# Altium schematic symbol library Converter_DCDC.SchLib: 947 symbols (part 10 of 12)
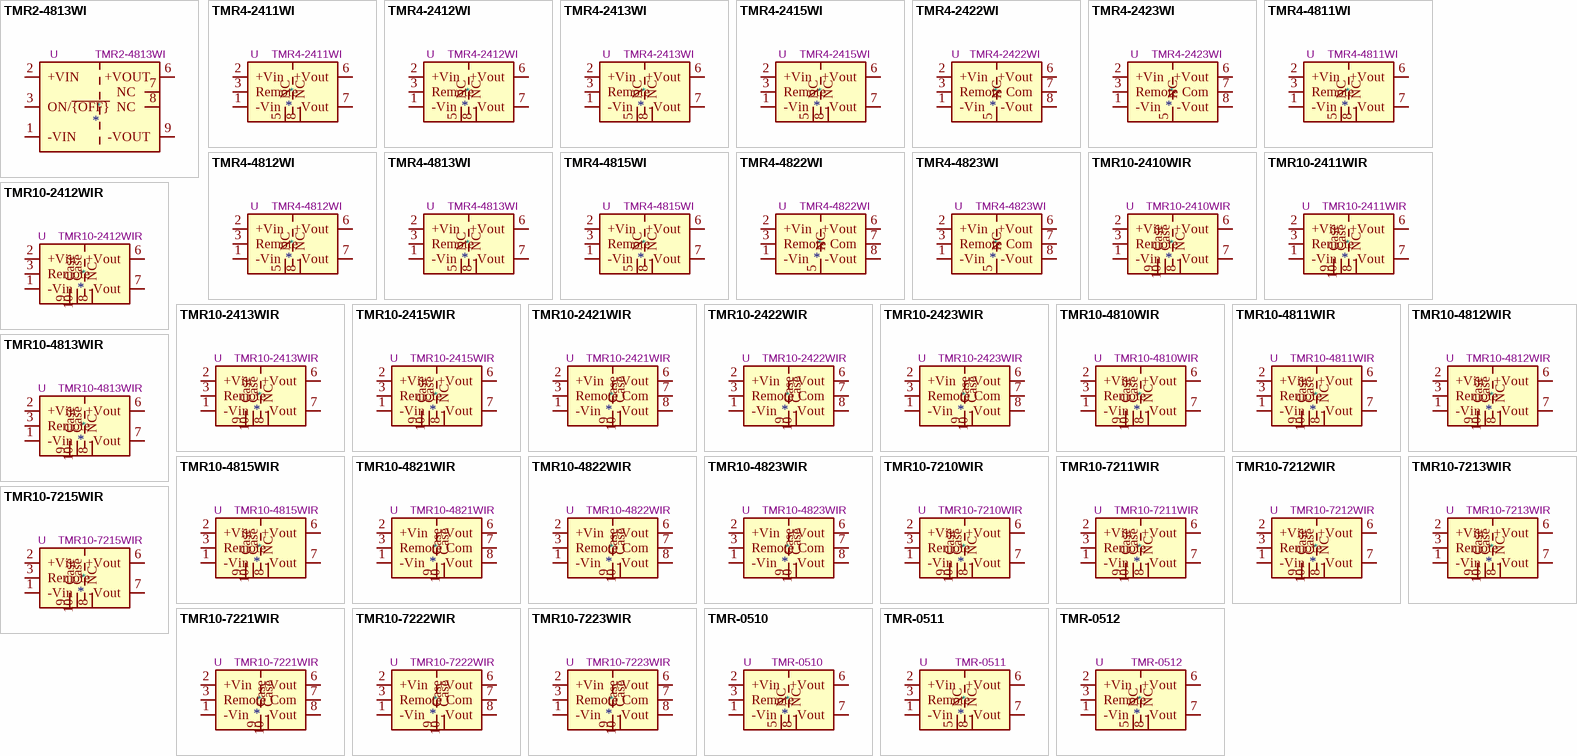
[diagram p32: symbols TMR2-4813WI to TMR-0512]

## TMR4-4815WI
designator *  value TMR4-4815WI  Reference: U
4W DC/DC industrial converter regulated, 18-75V input, 24V fixed output voltage, 166mA output, 1.6kVDC isolation, SIP-8; ki_keywords: Traco isolated dc-dc 62368-1 single; ki_fp_filters: Converter*DCDC*TRACO*TMR4*xxxxWI*; Footprint: Converter_DCDC:Converter_DCDC_TRACO_TMR4-xxxxWI_THT; Datasheet: https://www.tracopower.com/products/tmr4wi.pdf; Description_: 4W DC/DC industrial converter regulated, 18-75V input, 24V fixed output voltage, 166mA output, 1.6kVDC isolation, SIP-8
pins: 1 -Vin, 2 +Vin, 3 Remote, 5 NC, 6 +Vout, 7 -Vout, 8 NC

## TMR4-4822WI
designator *  value TMR4-4822WI  Reference: U
4W DC/DC industrial converter regulated, 18-75V input, ±12V fixed output voltage, 166mA each output, 1.6kVDC isolation, SIP-8; ki_keywords: Traco isolated dc-dc 62368-1 dual; ki_fp_filters: Converter*DCDC*TRACO*TMR4*xxxxWI*; Footprint: Converter_DCDC:Converter_DCDC_TRACO_TMR4-xxxxWI_THT; Datasheet: https://www.tracopower.com/products/tmr4wi.pdf; Description_: 4W DC/DC industrial converter regulated, 18-75V input, ±12V fixed output voltage, 166mA each output, 1.6kVDC isolation, SIP-8
pins: 1 -Vin, 2 +Vin, 3 Remote, 5 NC, 6 +Vout, 7 Com, 8 -Vout

## TMR4-4823WI
designator *  value TMR4-4823WI  Reference: U
4W DC/DC converter regulated, 18-75V input, ±15V fixed output voltage, 133mA each output, 1.6kVDC isolation, SIP-8; ki_keywords: Traco isolated dc-dc 62368-1 dual; ki_fp_filters: Converter*DCDC*TRACO*TMR4*xxxxWI*; Footprint: Converter_DCDC:Converter_DCDC_TRACO_TMR4-xxxxWI_THT; Datasheet: https://www.tracopower.com/products/tmr4wi.pdf; Description_: 4W DC/DC converter regulated, 18-75V input, ±15V fixed output voltage, 133mA each output, 1.6kVDC isolation, SIP-8
pins: 1 -Vin, 2 +Vin, 3 Remote, 5 NC, 6 +Vout, 7 Com, 8 -Vout

## TMR10-2410WIR
designator *  value TMR10-2410WIR  Reference: U
10W DC/DC railway converter regulated, 9-36V input, 3.3V fixed output voltage, 2.5A output, 3.0kVDC isolation, SIP-8; ki_keywords: Traco isolated dc-dc 50155 50121-3-2 62368-1 single; ki_fp_filters: Converter*DCDC*TRACO*TMR10*24xxWIR*48xxWIR*72xxWIR*THT*; Footprint: Converter_DCDC:Converter_DCDC_TRACO_TMR10-24xxWIR_48xxWIR_72xxWIR_THT; Datasheet: https://www.tracopower.com/products/tmr10wir.pdf; Description_: 10W DC/DC railway converter regulated, 9-36V input, 3.3V fixed output voltage, 2.5A output, 3.0kVDC isolation, SIP-8
pins: 1 -Vin, 2 +Vin, 3 Remote, 6 +Vout, 7 -Vout, 8 NC, 9 Case, 10 Case

## TMR10-2411WIR
designator *  value TMR10-2411WIR  Reference: U
10W DC/DC railway converter regulated, 9-36V input, 5V fixed output voltage, 2A output, 3.0kVDC isolation, SIP-8; ki_keywords: Traco isolated dc-dc 50155 50121-3-2 62368-1 single; ki_fp_filters: Converter*DCDC*TRACO*TMR10*24xxWIR*48xxWIR*72xxWIR*THT*; Footprint: Converter_DCDC:Converter_DCDC_TRACO_TMR10-24xxWIR_48xxWIR_72xxWIR_THT; Datasheet: https://www.tracopower.com/products/tmr10wir.pdf; Description_: 10W DC/DC railway converter regulated, 9-36V input, 5V fixed output voltage, 2A output, 3.0kVDC isolation, SIP-8
pins: 1 -Vin, 2 +Vin, 3 Remote, 6 +Vout, 7 -Vout, 8 NC, 9 Case, 10 Case

## TMR10-2412WIR
designator *  value TMR10-2412WIR  Reference: U
10W DC/DC railway converter regulated, 9-36V input, 12V fixed output voltage, 840mA output, 3.0kVDC isolation, SIP-8; ki_keywords: Traco isolated dc-dc 50155 50121-3-2 62368-1 single; ki_fp_filters: Converter*DCDC*TRACO*TMR10*24xxWIR*48xxWIR*72xxWIR*THT*; Footprint: Converter_DCDC:Converter_DCDC_TRACO_TMR10-24xxWIR_48xxWIR_72xxWIR_THT; Datasheet: https://www.tracopower.com/products/tmr10wir.pdf; Description_: 10W DC/DC railway converter regulated, 9-36V input, 12V fixed output voltage, 840mA output, 3.0kVDC isolation, SIP-8
pins: 1 -Vin, 2 +Vin, 3 Remote, 6 +Vout, 7 -Vout, 8 NC, 9 Case, 10 Case

## TMR10-2413WIR
designator *  value TMR10-2413WIR  Reference: U
10W DC/DC railway converter regulated, 9-36V input, 15V fixed output voltage, 670mA output, 3.0kVDC isolation, SIP-8; ki_keywords: Traco isolated dc-dc 50155 50121-3-2 62368-1 single; ki_fp_filters: Converter*DCDC*TRACO*TMR10*24xxWIR*48xxWIR*72xxWIR*THT*; Footprint: Converter_DCDC:Converter_DCDC_TRACO_TMR10-24xxWIR_48xxWIR_72xxWIR_THT; Datasheet: https://www.tracopower.com/products/tmr10wir.pdf; Description_: 10W DC/DC railway converter regulated, 9-36V input, 15V fixed output voltage, 670mA output, 3.0kVDC isolation, SIP-8
pins: 1 -Vin, 2 +Vin, 3 Remote, 6 +Vout, 7 -Vout, 8 NC, 9 Case, 10 Case

## TMR10-2415WIR
designator *  value TMR10-2415WIR  Reference: U
10W DC/DC railway converter regulated, 9-36V input, 24V fixed output voltage, 420mA output, 3.0kVDC isolation, SIP-8; ki_keywords: Traco isolated dc-dc 50155 50121-3-2 62368-1 single; ki_fp_filters: Converter*DCDC*TRACO*TMR10*24xxWIR*48xxWIR*72xxWIR*THT*; Footprint: Converter_DCDC:Converter_DCDC_TRACO_TMR10-24xxWIR_48xxWIR_72xxWIR_THT; Datasheet: https://www.tracopower.com/products/tmr10wir.pdf; Description_: 10W DC/DC railway converter regulated, 9-36V input, 24V fixed output voltage, 420mA output, 3.0kVDC isolation, SIP-8
pins: 1 -Vin, 2 +Vin, 3 Remote, 6 +Vout, 7 -Vout, 8 NC, 9 Case, 10 Case

## TMR10-2421WIR
designator *  value TMR10-2421WIR  Reference: U
10W DC/DC railway converter regulated, 9-36V input, ±5V fixed output voltage, 1A each output, 3.0kVDC isolation, SIP-8; ki_keywords: Traco isolated dc-dc 50155 50121-3-2 62368-1 dual; ki_fp_filters: Converter*DCDC*TRACO*TMR10*24xxWIR*48xxWIR*72xxWIR*THT*; Footprint: Converter_DCDC:Converter_DCDC_TRACO_TMR10-24xxWIR_48xxWIR_72xxWIR_THT; Datasheet: https://www.tracopower.com/products/tmr10wir.pdf; Description_: 10W DC/DC railway converter regulated, 9-36V input, ±5V fixed output voltage, 1A each output, 3.0kVDC isolation, SIP-8
pins: 1 -Vin, 2 +Vin, 3 Remote, 6 +Vout, 7 Com, 8 -Vout, 9 Case, 10 Case

## TMR10-2422WIR
designator *  value TMR10-2422WIR  Reference: U
10W DC/DC railway converter regulated, 9-36V input, ±12V fixed output voltage, 420mA each output, 3.0kVDC isolation, SIP-8; ki_keywords: Traco isolated dc-dc 50155 50121-3-2 62368-1 dual; ki_fp_filters: Converter*DCDC*TRACO*TMR10*24xxWIR*48xxWIR*72xxWIR*THT*; Footprint: Converter_DCDC:Converter_DCDC_TRACO_TMR10-24xxWIR_48xxWIR_72xxWIR_THT; Datasheet: https://www.tracopower.com/products/tmr10wir.pdf; Description_: 10W DC/DC railway converter regulated, 9-36V input, ±12V fixed output voltage, 420mA each output, 3.0kVDC isolation, SIP-8
pins: 1 -Vin, 2 +Vin, 3 Remote, 6 +Vout, 7 Com, 8 -Vout, 9 Case, 10 Case

## TMR10-2423WIR
designator *  value TMR10-2423WIR  Reference: U
10W DC/DC railway converter regulated, 9-36V input, ±15V fixed output voltage, 336mA each output, 3.0kVDC isolation, SIP-8; ki_keywords: Traco isolated dc-dc 50155 50121-3-2 62368-1 dual; ki_fp_filters: Converter*DCDC*TRACO*TMR10*24xxWIR*48xxWIR*72xxWIR*THT*; Footprint: Converter_DCDC:Converter_DCDC_TRACO_TMR10-24xxWIR_48xxWIR_72xxWIR_THT; Datasheet: https://www.tracopower.com/products/tmr10wir.pdf; Description_: 10W DC/DC railway converter regulated, 9-36V input, ±15V fixed output voltage, 336mA each output, 3.0kVDC isolation, SIP-8
pins: 1 -Vin, 2 +Vin, 3 Remote, 6 +Vout, 7 Com, 8 -Vout, 9 Case, 10 Case

## TMR10-4810WIR
designator *  value TMR10-4810WIR  Reference: U
10W DC/DC railway converter regulated, 18-75V input, 3.3V fixed output voltage, 2.5A output, 3.0kVDC isolation, SIP-8; ki_keywords: Traco isolated dc-dc 50155 50121-3-2 62368-1 single; ki_fp_filters: Converter*DCDC*TRACO*TMR10*24xxWIR*48xxWIR*72xxWIR*THT*; Footprint: Converter_DCDC:Converter_DCDC_TRACO_TMR10-24xxWIR_48xxWIR_72xxWIR_THT; Datasheet: https://www.tracopower.com/products/tmr10wir.pdf; Description_: 10W DC/DC railway converter regulated, 18-75V input, 3.3V fixed output voltage, 2.5A output, 3.0kVDC isolation, SIP-8
pins: 1 -Vin, 2 +Vin, 3 Remote, 6 +Vout, 7 -Vout, 8 NC, 9 Case, 10 Case

## TMR10-4811WIR
designator *  value TMR10-4811WIR  Reference: U
10W DC/DC railway converter regulated, 18-75V input, 5V fixed output voltage, 2A output, 3.0kVDC isolation, SIP-8; ki_keywords: Traco isolated dc-dc 50155 50121-3-2 62368-1 single; ki_fp_filters: Converter*DCDC*TRACO*TMR10*24xxWIR*48xxWIR*72xxWIR*THT*; Footprint: Converter_DCDC:Converter_DCDC_TRACO_TMR10-24xxWIR_48xxWIR_72xxWIR_THT; Datasheet: https://www.tracopower.com/products/tmr10wir.pdf; Description_: 10W DC/DC railway converter regulated, 18-75V input, 5V fixed output voltage, 2A output, 3.0kVDC isolation, SIP-8
pins: 1 -Vin, 2 +Vin, 3 Remote, 6 +Vout, 7 -Vout, 8 NC, 9 Case, 10 Case

## TMR10-4812WIR
designator *  value TMR10-4812WIR  Reference: U
10W DC/DC railway converter regulated, 18-75V input, 12V fixed output voltage, 840mA output, 3.0kVDC isolation, SIP-8; ki_keywords: Traco isolated dc-dc 50155 50121-3-2 62368-1 single; ki_fp_filters: Converter*DCDC*TRACO*TMR10*24xxWIR*48xxWIR*72xxWIR*THT*; Footprint: Converter_DCDC:Converter_DCDC_TRACO_TMR10-24xxWIR_48xxWIR_72xxWIR_THT; Datasheet: https://www.tracopower.com/products/tmr10wir.pdf; Description_: 10W DC/DC railway converter regulated, 18-75V input, 12V fixed output voltage, 840mA output, 3.0kVDC isolation, SIP-8
pins: 1 -Vin, 2 +Vin, 3 Remote, 6 +Vout, 7 -Vout, 8 NC, 9 Case, 10 Case

## TMR10-4813WIR
designator *  value TMR10-4813WIR  Reference: U
10W DC/DC railway converter regulated, 18-75V input, 15V fixed output voltage, 670mA output, 3.0kVDC isolation, SIP-8; ki_keywords: Traco isolated dc-dc 50155 50121-3-2 62368-1 single; ki_fp_filters: Converter*DCDC*TRACO*TMR10*24xxWIR*48xxWIR*72xxWIR*THT*; Footprint: Converter_DCDC:Converter_DCDC_TRACO_TMR10-24xxWIR_48xxWIR_72xxWIR_THT; Datasheet: https://www.tracopower.com/products/tmr10wir.pdf; Description_: 10W DC/DC railway converter regulated, 18-75V input, 15V fixed output voltage, 670mA output, 3.0kVDC isolation, SIP-8
pins: 1 -Vin, 2 +Vin, 3 Remote, 6 +Vout, 7 -Vout, 8 NC, 9 Case, 10 Case

## TMR10-4815WIR
designator *  value TMR10-4815WIR  Reference: U
10W DC/DC railway converter regulated, 18-75V input, 24V fixed output voltage, 420mA output, 3.0kVDC isolation, SIP-8; ki_keywords: Traco isolated dc-dc 50155 50121-3-2 62368-1 single; ki_fp_filters: Converter*DCDC*TRACO*TMR10*24xxWIR*48xxWIR*72xxWIR*THT*; Footprint: Converter_DCDC:Converter_DCDC_TRACO_TMR10-24xxWIR_48xxWIR_72xxWIR_THT; Datasheet: https://www.tracopower.com/products/tmr10wir.pdf; Description_: 10W DC/DC railway converter regulated, 18-75V input, 24V fixed output voltage, 420mA output, 3.0kVDC isolation, SIP-8
pins: 1 -Vin, 2 +Vin, 3 Remote, 6 +Vout, 7 -Vout, 8 NC, 9 Case, 10 Case

## TMR10-4821WIR
designator *  value TMR10-4821WIR  Reference: U
10W DC/DC railway converter regulated, 18-75V input, ±5V fixed output voltage, 1A each output, 3.0kVDC isolation, SIP-8; ki_keywords: Traco isolated dc-dc 50155 50121-3-2 62368-1 dual; ki_fp_filters: Converter*DCDC*TRACO*TMR10*24xxWIR*48xxWIR*72xxWIR*THT*; Footprint: Converter_DCDC:Converter_DCDC_TRACO_TMR10-24xxWIR_48xxWIR_72xxWIR_THT; Datasheet: https://www.tracopower.com/products/tmr10wir.pdf; Description_: 10W DC/DC railway converter regulated, 18-75V input, ±5V fixed output voltage, 1A each output, 3.0kVDC isolation, SIP-8
pins: 1 -Vin, 2 +Vin, 3 Remote, 6 +Vout, 7 Com, 8 -Vout, 9 Case, 10 Case

## TMR10-4822WIR
designator *  value TMR10-4822WIR  Reference: U
10W DC/DC railway converter regulated, 18-75V input, ±12V fixed output voltage, 420mA each output, 3.0kVDC isolation, SIP-8; ki_keywords: Traco isolated dc-dc 50155 50121-3-2 62368-1 dual; ki_fp_filters: Converter*DCDC*TRACO*TMR10*24xxWIR*48xxWIR*72xxWIR*THT*; Footprint: Converter_DCDC:Converter_DCDC_TRACO_TMR10-24xxWIR_48xxWIR_72xxWIR_THT; Datasheet: https://www.tracopower.com/products/tmr10wir.pdf; Description_: 10W DC/DC railway converter regulated, 18-75V input, ±12V fixed output voltage, 420mA each output, 3.0kVDC isolation, SIP-8
pins: 1 -Vin, 2 +Vin, 3 Remote, 6 +Vout, 7 Com, 8 -Vout, 9 Case, 10 Case

## TMR10-4823WIR
designator *  value TMR10-4823WIR  Reference: U
10W DC/DC railway converter regulated, 18-75V input, ±15V fixed output voltage, 336mA each output, 3.0kVDC isolation, SIP-8; ki_keywords: Traco isolated dc-dc 50155 50121-3-2 62368-1 dual; ki_fp_filters: Converter*DCDC*TRACO*TMR10*24xxWIR*48xxWIR*72xxWIR*THT*; Footprint: Converter_DCDC:Converter_DCDC_TRACO_TMR10-24xxWIR_48xxWIR_72xxWIR_THT; Datasheet: https://www.tracopower.com/products/tmr10wir.pdf; Description_: 10W DC/DC railway converter regulated, 18-75V input, ±15V fixed output voltage, 336mA each output, 3.0kVDC isolation, SIP-8
pins: 1 -Vin, 2 +Vin, 3 Remote, 6 +Vout, 7 Com, 8 -Vout, 9 Case, 10 Case

## TMR10-7210WIR
designator *  value TMR10-7210WIR  Reference: U
10W DC/DC railway converter regulated, 40-160V input, 3.3V fixed output voltage, 2.5A output, 3.0kVDC isolation, SIP-8; ki_keywords: Traco isolated dc-dc 50155 50121-3-2 62368-1 single; ki_fp_filters: Converter*DCDC*TRACO*TMR10*24xxWIR*48xxWIR*72xxWIR*THT*; Footprint: Converter_DCDC:Converter_DCDC_TRACO_TMR10-24xxWIR_48xxWIR_72xxWIR_THT; Datasheet: https://www.tracopower.com/products/tmr10wir.pdf; Description_: 10W DC/DC railway converter regulated, 40-160V input, 3.3V fixed output voltage, 2.5A output, 3.0kVDC isolation, SIP-8
pins: 1 -Vin, 2 +Vin, 3 Remote, 6 +Vout, 7 -Vout, 8 NC, 9 Case, 10 Case

## TMR10-7211WIR
designator *  value TMR10-7211WIR  Reference: U
10W DC/DC railway converter regulated, 40-160V input, 5V fixed output voltage, 2A output, 3.0kVDC isolation, SIP-8; ki_keywords: Traco isolated dc-dc 50155 50121-3-2 62368-1 single; ki_fp_filters: Converter*DCDC*TRACO*TMR10*24xxWIR*48xxWIR*72xxWIR*THT*; Footprint: Converter_DCDC:Converter_DCDC_TRACO_TMR10-24xxWIR_48xxWIR_72xxWIR_THT; Datasheet: https://www.tracopower.com/products/tmr10wir.pdf; Description_: 10W DC/DC railway converter regulated, 40-160V input, 5V fixed output voltage, 2A output, 3.0kVDC isolation, SIP-8
pins: 1 -Vin, 2 +Vin, 3 Remote, 6 +Vout, 7 -Vout, 8 NC, 9 Case, 10 Case

## TMR10-7212WIR
designator *  value TMR10-7212WIR  Reference: U
10W DC/DC railway converter regulated, 40-160V input, 12V fixed output voltage, 840mA output, 3.0kVDC isolation, SIP-8; ki_keywords: Traco isolated dc-dc 50155 50121-3-2 62368-1 single; ki_fp_filters: Converter*DCDC*TRACO*TMR10*24xxWIR*48xxWIR*72xxWIR*THT*; Footprint: Converter_DCDC:Converter_DCDC_TRACO_TMR10-24xxWIR_48xxWIR_72xxWIR_THT; Datasheet: https://www.tracopower.com/products/tmr10wir.pdf; Description_: 10W DC/DC railway converter regulated, 40-160V input, 12V fixed output voltage, 840mA output, 3.0kVDC isolation, SIP-8
pins: 1 -Vin, 2 +Vin, 3 Remote, 6 +Vout, 7 -Vout, 8 NC, 9 Case, 10 Case

## TMR10-7213WIR
designator *  value TMR10-7213WIR  Reference: U
10W DC/DC railway converter regulated, 40-160V input, 15V fixed output voltage, 670mA output, 3.0kVDC isolation, SIP-8; ki_keywords: Traco isolated dc-dc 50155 50121-3-2 62368-1 single; ki_fp_filters: Converter*DCDC*TRACO*TMR10*24xxWIR*48xxWIR*72xxWIR*THT*; Footprint: Converter_DCDC:Converter_DCDC_TRACO_TMR10-24xxWIR_48xxWIR_72xxWIR_THT; Datasheet: https://www.tracopower.com/products/tmr10wir.pdf; Description_: 10W DC/DC railway converter regulated, 40-160V input, 15V fixed output voltage, 670mA output, 3.0kVDC isolation, SIP-8
pins: 1 -Vin, 2 +Vin, 3 Remote, 6 +Vout, 7 -Vout, 8 NC, 9 Case, 10 Case

## TMR10-7215WIR
designator *  value TMR10-7215WIR  Reference: U
10W DC/DC railway converter regulated, 40-160V input, 24V fixed output voltage, 420mA output, 3.0kVDC isolation, SIP-8; ki_keywords: Traco isolated dc-dc 50155 50121-3-2 62368-1 single; ki_fp_filters: Converter*DCDC*TRACO*TMR10*24xxWIR*48xxWIR*72xxWIR*THT*; Footprint: Converter_DCDC:Converter_DCDC_TRACO_TMR10-24xxWIR_48xxWIR_72xxWIR_THT; Datasheet: https://www.tracopower.com/products/tmr10wir.pdf; Description_: 10W DC/DC railway converter regulated, 40-160V input, 24V fixed output voltage, 420mA output, 3.0kVDC isolation, SIP-8
pins: 1 -Vin, 2 +Vin, 3 Remote, 6 +Vout, 7 -Vout, 8 NC, 9 Case, 10 Case

## TMR10-7221WIR
designator *  value TMR10-7221WIR  Reference: U
10W DC/DC railway converter regulated, 40-160V input, ±5V fixed output voltage, 1A each output, 3.0kVDC isolation, SIP-8; ki_keywords: Traco isolated dc-dc 50155 50121-3-2 62368-1 dual; ki_fp_filters: Converter*DCDC*TRACO*TMR10*24xxWIR*48xxWIR*72xxWIR*THT*; Footprint: Converter_DCDC:Converter_DCDC_TRACO_TMR10-24xxWIR_48xxWIR_72xxWIR_THT; Datasheet: https://www.tracopower.com/products/tmr10wir.pdf; Description_: 10W DC/DC railway converter regulated, 40-160V input, ±5V fixed output voltage, 1A each output, 3.0kVDC isolation, SIP-8
pins: 1 -Vin, 2 +Vin, 3 Remote, 6 +Vout, 7 Com, 8 -Vout, 9 Case, 10 Case

## TMR10-7222WIR
designator *  value TMR10-7222WIR  Reference: U
10W DC/DC railway converter regulated, 40-160V input, ±12V fixed output voltage, 420mA each output, 3.0kVDC isolation, SIP-8; ki_keywords: Traco isolated dc-dc 50155 50121-3-2 62368-1 dual; ki_fp_filters: Converter*DCDC*TRACO*TMR10*24xxWIR*48xxWIR*72xxWIR*THT*; Footprint: Converter_DCDC:Converter_DCDC_TRACO_TMR10-24xxWIR_48xxWIR_72xxWIR_THT; Datasheet: https://www.tracopower.com/products/tmr10wir.pdf; Description_: 10W DC/DC railway converter regulated, 40-160V input, ±12V fixed output voltage, 420mA each output, 3.0kVDC isolation, SIP-8
pins: 1 -Vin, 2 +Vin, 3 Remote, 6 +Vout, 7 Com, 8 -Vout, 9 Case, 10 Case

## TMR10-7223WIR
designator *  value TMR10-7223WIR  Reference: U
10W DC/DC railway converter regulated, 40-160V input, ±15V fixed output voltage, 336mA each output, 3.0kVDC isolation, SIP-8; ki_keywords: Traco isolated dc-dc 50155 50121-3-2 62368-1 dual; ki_fp_filters: Converter*DCDC*TRACO*TMR10*24xxWIR*48xxWIR*72xxWIR*THT*; Footprint: Converter_DCDC:Converter_DCDC_TRACO_TMR10-24xxWIR_48xxWIR_72xxWIR_THT; Datasheet: https://www.tracopower.com/products/tmr10wir.pdf; Description_: 10W DC/DC railway converter regulated, 40-160V input, ±15V fixed output voltage, 336mA each output, 3.0kVDC isolation, SIP-8
pins: 1 -Vin, 2 +Vin, 3 Remote, 6 +Vout, 7 Com, 8 -Vout, 9 Case, 10 Case

## TMR-0510
designator *  value TMR-0510  Reference: U
2W DC/DC industrial converter regulated, 4.5-9V input, 3.3V fixed output voltage, 500mA output, 1.6kVDC isolation, SIP-8; ki_keywords: Traco isolated dc-dc 62368-1 single; ki_fp_filters: Converter*DCDC*TRACO*TEC2*12xxWI*24xxWI*48xxWI*THT*; Footprint: Converter_DCDC:Converter_DCDC_TRACO_TEC2-12xxWI_24xxWI_48xxWI_THT; Datasheet: https://www.tracopower.com/products/tmr2.pdf; Description_: 2W DC/DC industrial converter regulated, 4.5-9V input, 3.3V fixed output voltage, 500mA output, 1.6kVDC isolation, SIP-8
pins: 1 -Vin, 2 +Vin, 3 Remote, 5 NC, 6 +Vout, 7 -Vout, 8 NC

## TMR-0511
designator *  value TMR-0511  Reference: U
2W DC/DC industrial converter regulated, 4.5-9V input, 5V fixed output voltage, 400mA output, 1.6kVDC isolation, SIP-8; ki_keywords: Traco isolated dc-dc 62368-1 single; ki_fp_filters: Converter*DCDC*TRACO*TEC2*12xxWI*24xxWI*48xxWI*THT*; Footprint: Converter_DCDC:Converter_DCDC_TRACO_TEC2-12xxWI_24xxWI_48xxWI_THT; Datasheet: https://www.tracopower.com/products/tmr2.pdf; Description_: 2W DC/DC industrial converter regulated, 4.5-9V input, 5V fixed output voltage, 400mA output, 1.6kVDC isolation, SIP-8
pins: 1 -Vin, 2 +Vin, 3 Remote, 5 NC, 6 +Vout, 7 -Vout, 8 NC

## TMR-0512
designator *  value TMR-0512  Reference: U
2W DC/DC industrial converter regulated, 4.5-9V input, 12V fixed output voltage, 167mA output, 1.6kVDC isolation, SIP-8; ki_keywords: Traco isolated dc-dc 62368-1 single; ki_fp_filters: Converter*DCDC*TRACO*TEC2*12xxWI*24xxWI*48xxWI*THT*; Footprint: Converter_DCDC:Converter_DCDC_TRACO_TEC2-12xxWI_24xxWI_48xxWI_THT; Datasheet: https://www.tracopower.com/products/tmr2.pdf; Description_: 2W DC/DC industrial converter regulated, 4.5-9V input, 12V fixed output voltage, 167mA output, 1.6kVDC isolation, SIP-8
pins: 1 -Vin, 2 +Vin, 3 Remote, 5 NC, 6 +Vout, 7 -Vout, 8 NC

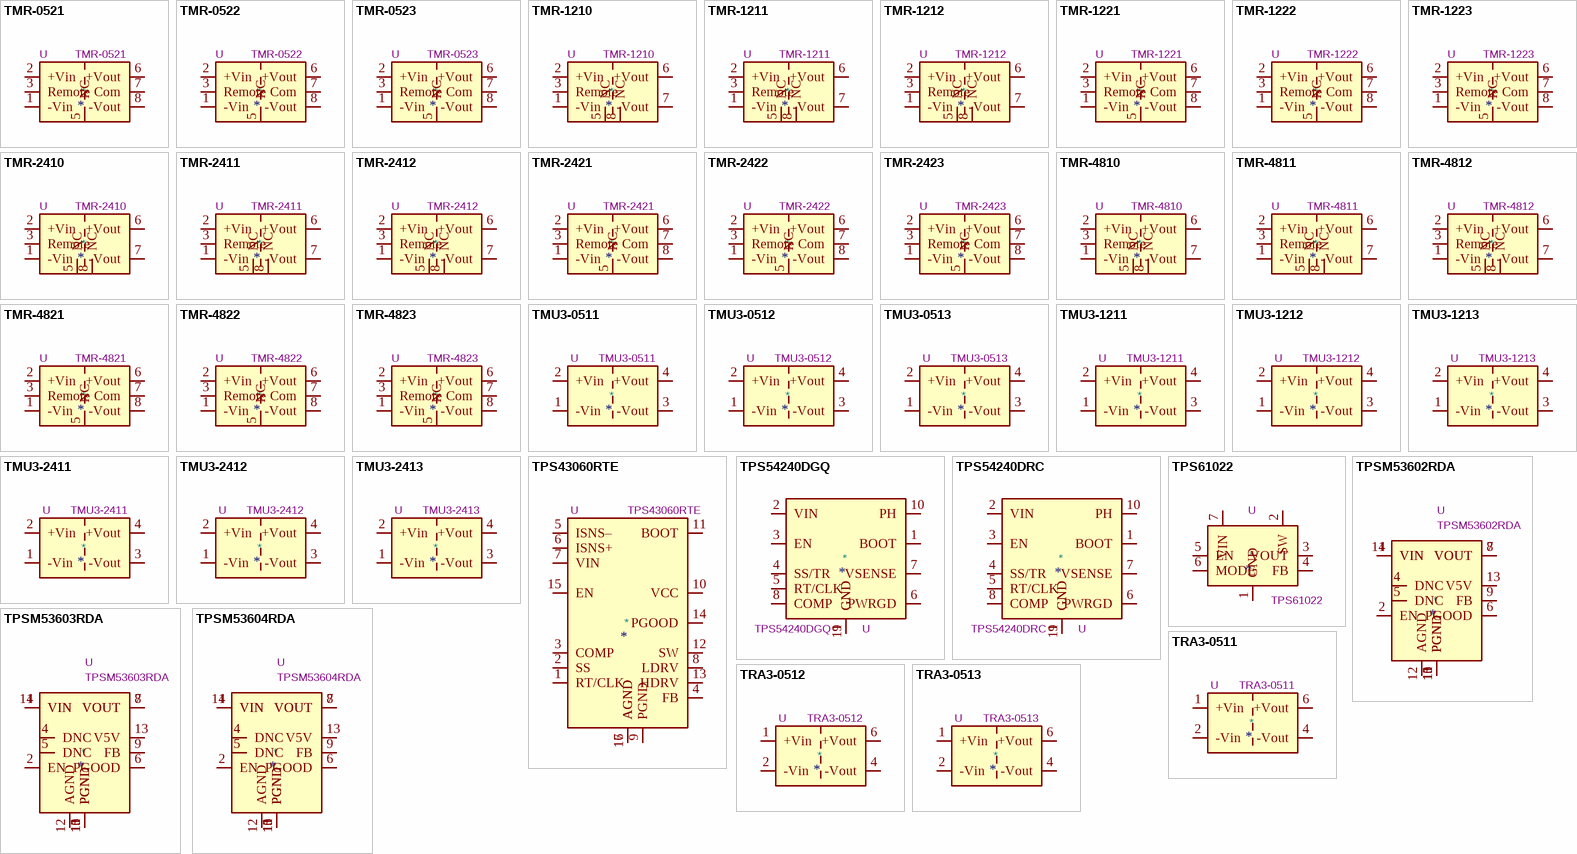
[diagram p20: symbols TMR-0521 to TRA3-0513]

## TMR-0521
designator *  value TMR-0521  Reference: U
2W DC/DC industrial converter regulated, 4.5-9V input, ±5V fixed output voltage, 200mA each output, 1.6kVDC isolation, SIP-8; ki_keywords: Traco isolated dc-dc 62368-1 dual; ki_fp_filters: Converter*DCDC*TRACO*TEC2*12xxWI*24xxWI*48xxWI*THT*; Footprint: Converter_DCDC:Converter_DCDC_TRACO_TEC2-12xxWI_24xxWI_48xxWI_THT; Datasheet: https://www.tracopower.com/products/tmr2.pdf; Description_: 2W DC/DC industrial converter regulated, 4.5-9V input, ±5V fixed output voltage, 200mA each output, 1.6kVDC isolation, SIP-8
pins: 1 -Vin, 2 +Vin, 3 Remote, 5 NC, 6 +Vout, 7 Com, 8 -Vout

## TMR-0522
designator *  value TMR-0522  Reference: U
2W DC/DC industrial converter regulated, 4.5-9V input, ±12V fixed output voltage, 83mA each output, 1.6kVDC isolation, SIP-8; ki_keywords: Traco isolated dc-dc 62368-1 dual; ki_fp_filters: Converter*DCDC*TRACO*TEC2*12xxWI*24xxWI*48xxWI*THT*; Footprint: Converter_DCDC:Converter_DCDC_TRACO_TEC2-12xxWI_24xxWI_48xxWI_THT; Datasheet: https://www.tracopower.com/products/tmr2.pdf; Description_: 2W DC/DC industrial converter regulated, 4.5-9V input, ±12V fixed output voltage, 83mA each output, 1.6kVDC isolation, SIP-8
pins: 1 -Vin, 2 +Vin, 3 Remote, 5 NC, 6 +Vout, 7 Com, 8 -Vout

## TMR-0523
designator *  value TMR-0523  Reference: U
2W DC/DC industrial converter regulated, 4.5-9V input, ±15V fixed output voltage, 67mA each output, 1.6kVDC isolation, SIP-8; ki_keywords: Traco isolated dc-dc 62368-1 dual; ki_fp_filters: Converter*DCDC*TRACO*TEC2*12xxWI*24xxWI*48xxWI*THT*; Footprint: Converter_DCDC:Converter_DCDC_TRACO_TEC2-12xxWI_24xxWI_48xxWI_THT; Datasheet: https://www.tracopower.com/products/tmr2.pdf; Description_: 2W DC/DC industrial converter regulated, 4.5-9V input, ±15V fixed output voltage, 67mA each output, 1.6kVDC isolation, SIP-8
pins: 1 -Vin, 2 +Vin, 3 Remote, 5 NC, 6 +Vout, 7 Com, 8 -Vout

## TMR-1210
designator *  value TMR-1210  Reference: U
2W DC/DC industrial converter regulated, 9-18V input, 3.3V fixed output voltage, 500mA output, 1.6kVDC isolation, SIP-8; ki_keywords: Traco isolated dc-dc 62368-1 single; ki_fp_filters: Converter*DCDC*TRACO*TEC2*12xxWI*24xxWI*48xxWI*THT*; Footprint: Converter_DCDC:Converter_DCDC_TRACO_TEC2-12xxWI_24xxWI_48xxWI_THT; Datasheet: https://www.tracopower.com/products/tmr2.pdf; Description_: 2W DC/DC industrial converter regulated, 9-18V input, 3.3V fixed output voltage, 500mA output, 1.6kVDC isolation, SIP-8
pins: 1 -Vin, 2 +Vin, 3 Remote, 5 NC, 6 +Vout, 7 -Vout, 8 NC

## TMR-1211
designator *  value TMR-1211  Reference: U
2W DC/DC industrial converter regulated, 9-18V input, 5V fixed output voltage, 400mA output, 1.6kVDC isolation, SIP-8; ki_keywords: Traco isolated dc-dc 62368-1 single; ki_fp_filters: Converter*DCDC*TRACO*TEC2*12xxWI*24xxWI*48xxWI*THT*; Footprint: Converter_DCDC:Converter_DCDC_TRACO_TEC2-12xxWI_24xxWI_48xxWI_THT; Datasheet: https://www.tracopower.com/products/tmr2.pdf; Description_: 2W DC/DC industrial converter regulated, 9-18V input, 5V fixed output voltage, 400mA output, 1.6kVDC isolation, SIP-8
pins: 1 -Vin, 2 +Vin, 3 Remote, 5 NC, 6 +Vout, 7 -Vout, 8 NC

## TMR-1212
designator *  value TMR-1212  Reference: U
2W DC/DC industrial converter regulated, 9-18V input, 12V fixed output voltage, 167mA output, 1.6kVDC isolation, SIP-8; ki_keywords: Traco isolated dc-dc 62368-1 single; ki_fp_filters: Converter*DCDC*TRACO*TEC2*12xxWI*24xxWI*48xxWI*THT*; Footprint: Converter_DCDC:Converter_DCDC_TRACO_TEC2-12xxWI_24xxWI_48xxWI_THT; Datasheet: https://www.tracopower.com/products/tmr2.pdf; Description_: 2W DC/DC industrial converter regulated, 9-18V input, 12V fixed output voltage, 167mA output, 1.6kVDC isolation, SIP-8
pins: 1 -Vin, 2 +Vin, 3 Remote, 5 NC, 6 +Vout, 7 -Vout, 8 NC

## TMR-1221
designator *  value TMR-1221  Reference: U
2W DC/DC industrial converter regulated, 9-18V input, ±5V fixed output voltage, 200mA each output, 1.6kVDC isolation, SIP-8; ki_keywords: Traco isolated dc-dc 62368-1 dual; ki_fp_filters: Converter*DCDC*TRACO*TEC2*12xxWI*24xxWI*48xxWI*THT*; Footprint: Converter_DCDC:Converter_DCDC_TRACO_TEC2-12xxWI_24xxWI_48xxWI_THT; Datasheet: https://www.tracopower.com/products/tmr2.pdf; Description_: 2W DC/DC industrial converter regulated, 9-18V input, ±5V fixed output voltage, 200mA each output, 1.6kVDC isolation, SIP-8
pins: 1 -Vin, 2 +Vin, 3 Remote, 5 NC, 6 +Vout, 7 Com, 8 -Vout

## TMR-1222
designator *  value TMR-1222  Reference: U
2W DC/DC industrial converter regulated, 9-18V input, ±12V fixed output voltage, 83mA each output, 1.6kVDC isolation, SIP-8; ki_keywords: Traco isolated dc-dc 62368-1 dual; ki_fp_filters: Converter*DCDC*TRACO*TEC2*12xxWI*24xxWI*48xxWI*THT*; Footprint: Converter_DCDC:Converter_DCDC_TRACO_TEC2-12xxWI_24xxWI_48xxWI_THT; Datasheet: https://www.tracopower.com/products/tmr2.pdf; Description_: 2W DC/DC industrial converter regulated, 9-18V input, ±12V fixed output voltage, 83mA each output, 1.6kVDC isolation, SIP-8
pins: 1 -Vin, 2 +Vin, 3 Remote, 5 NC, 6 +Vout, 7 Com, 8 -Vout

## TMR-1223
designator *  value TMR-1223  Reference: U
2W DC/DC industrial converter regulated, 9-18V input, ±15V fixed output voltage, 67mA each output, 1.6kVDC isolation, SIP-8; ki_keywords: Traco isolated dc-dc 62368-1 dual; ki_fp_filters: Converter*DCDC*TRACO*TEC2*12xxWI*24xxWI*48xxWI*THT*; Footprint: Converter_DCDC:Converter_DCDC_TRACO_TEC2-12xxWI_24xxWI_48xxWI_THT; Datasheet: https://www.tracopower.com/products/tmr2.pdf; Description_: 2W DC/DC industrial converter regulated, 9-18V input, ±15V fixed output voltage, 67mA each output, 1.6kVDC isolation, SIP-8
pins: 1 -Vin, 2 +Vin, 3 Remote, 5 NC, 6 +Vout, 7 Com, 8 -Vout

## TMR-2410
designator *  value TMR-2410  Reference: U
2W DC/DC industrial converter regulated, 18-36V input, 3.3V fixed output voltage, 500mA output, 1.6kVDC isolation, SIP-8; ki_keywords: Traco isolated dc-dc 62368-1 single; ki_fp_filters: Converter*DCDC*TRACO*TEC2*12xxWI*24xxWI*48xxWI*THT*; Footprint: Converter_DCDC:Converter_DCDC_TRACO_TEC2-12xxWI_24xxWI_48xxWI_THT; Datasheet: https://www.tracopower.com/products/tmr2.pdf; Description_: 2W DC/DC industrial converter regulated, 18-36V input, 3.3V fixed output voltage, 500mA output, 1.6kVDC isolation, SIP-8
pins: 1 -Vin, 2 +Vin, 3 Remote, 5 NC, 6 +Vout, 7 -Vout, 8 NC

## TMR-2411
designator *  value TMR-2411  Reference: U
2W DC/DC industrial converter regulated, 18-36V input, 5V fixed output voltage, 400mA output, 1.6kVDC isolation, SIP-8; ki_keywords: Traco isolated dc-dc 62368-1 single; ki_fp_filters: Converter*DCDC*TRACO*TEC2*12xxWI*24xxWI*48xxWI*THT*; Footprint: Converter_DCDC:Converter_DCDC_TRACO_TEC2-12xxWI_24xxWI_48xxWI_THT; Datasheet: https://www.tracopower.com/products/tmr2.pdf; Description_: 2W DC/DC industrial converter regulated, 18-36V input, 5V fixed output voltage, 400mA output, 1.6kVDC isolation, SIP-8
pins: 1 -Vin, 2 +Vin, 3 Remote, 5 NC, 6 +Vout, 7 -Vout, 8 NC

## TMR-2412
designator *  value TMR-2412  Reference: U
2W DC/DC industrial converter regulated, 18-36V input, 12V fixed output voltage, 167mA output, 1.6kVDC isolation, SIP-8; ki_keywords: Traco isolated dc-dc 62368-1 single; ki_fp_filters: Converter*DCDC*TRACO*TEC2*12xxWI*24xxWI*48xxWI*THT*; Footprint: Converter_DCDC:Converter_DCDC_TRACO_TEC2-12xxWI_24xxWI_48xxWI_THT; Datasheet: https://www.tracopower.com/products/tmr2.pdf; Description_: 2W DC/DC industrial converter regulated, 18-36V input, 12V fixed output voltage, 167mA output, 1.6kVDC isolation, SIP-8
pins: 1 -Vin, 2 +Vin, 3 Remote, 5 NC, 6 +Vout, 7 -Vout, 8 NC

## TMR-2421
designator *  value TMR-2421  Reference: U
2W DC/DC industrial converter regulated, 18-36V input, ±5V fixed output voltage, 200mA each output, 1.6kVDC isolation, SIP-8; ki_keywords: Traco isolated dc-dc 62368-1 dual; ki_fp_filters: Converter*DCDC*TRACO*TEC2*12xxWI*24xxWI*48xxWI*THT*; Footprint: Converter_DCDC:Converter_DCDC_TRACO_TEC2-12xxWI_24xxWI_48xxWI_THT; Datasheet: https://www.tracopower.com/products/tmr2.pdf; Description_: 2W DC/DC industrial converter regulated, 18-36V input, ±5V fixed output voltage, 200mA each output, 1.6kVDC isolation, SIP-8
pins: 1 -Vin, 2 +Vin, 3 Remote, 5 NC, 6 +Vout, 7 Com, 8 -Vout

## TMR-2422
designator *  value TMR-2422  Reference: U
2W DC/DC industrial converter regulated, 18-36V input, ±12V fixed output voltage, 83mA each output, 1.6kVDC isolation, SIP-8; ki_keywords: Traco isolated dc-dc 62368-1 dual; ki_fp_filters: Converter*DCDC*TRACO*TEC2*12xxWI*24xxWI*48xxWI*THT*; Footprint: Converter_DCDC:Converter_DCDC_TRACO_TEC2-12xxWI_24xxWI_48xxWI_THT; Datasheet: https://www.tracopower.com/products/tmr2.pdf; Description_: 2W DC/DC industrial converter regulated, 18-36V input, ±12V fixed output voltage, 83mA each output, 1.6kVDC isolation, SIP-8
pins: 1 -Vin, 2 +Vin, 3 Remote, 5 NC, 6 +Vout, 7 Com, 8 -Vout

## TMR-2423
designator *  value TMR-2423  Reference: U
2W DC/DC industrial converter regulated, 18-36V input, ±15V fixed output voltage, 67mA each output, 1.6kVDC isolation, SIP-8; ki_keywords: Traco isolated dc-dc 62368-1 dual; ki_fp_filters: Converter*DCDC*TRACO*TEC2*12xxWI*24xxWI*48xxWI*THT*; Footprint: Converter_DCDC:Converter_DCDC_TRACO_TEC2-12xxWI_24xxWI_48xxWI_THT; Datasheet: https://www.tracopower.com/products/tmr2.pdf; Description_: 2W DC/DC industrial converter regulated, 18-36V input, ±15V fixed output voltage, 67mA each output, 1.6kVDC isolation, SIP-8
pins: 1 -Vin, 2 +Vin, 3 Remote, 5 NC, 6 +Vout, 7 Com, 8 -Vout

## TMR-4810
designator *  value TMR-4810  Reference: U
2W DC/DC industrial converter regulated, 36-75V input, 3.3V fixed output voltage, 500mA output, 1.6kVDC isolation, SIP-8; ki_keywords: Traco isolated dc-dc 62368-1 single; ki_fp_filters: Converter*DCDC*TRACO*TEC2*12xxWI*24xxWI*48xxWI*THT*; Footprint: Converter_DCDC:Converter_DCDC_TRACO_TEC2-12xxWI_24xxWI_48xxWI_THT; Datasheet: https://www.tracopower.com/products/tmr2.pdf; Description_: 2W DC/DC industrial converter regulated, 36-75V input, 3.3V fixed output voltage, 500mA output, 1.6kVDC isolation, SIP-8
pins: 1 -Vin, 2 +Vin, 3 Remote, 5 NC, 6 +Vout, 7 -Vout, 8 NC

## TMR-4811
designator *  value TMR-4811  Reference: U
2W DC/DC industrial converter regulated, 36-75V input, 5V fixed output voltage, 400mA output, 1.6kVDC isolation, SIP-8; ki_keywords: Traco isolated dc-dc 62368-1 single; ki_fp_filters: Converter*DCDC*TRACO*TEC2*12xxWI*24xxWI*48xxWI*THT*; Footprint: Converter_DCDC:Converter_DCDC_TRACO_TEC2-12xxWI_24xxWI_48xxWI_THT; Datasheet: https://www.tracopower.com/products/tmr2.pdf; Description_: 2W DC/DC industrial converter regulated, 36-75V input, 5V fixed output voltage, 400mA output, 1.6kVDC isolation, SIP-8
pins: 1 -Vin, 2 +Vin, 3 Remote, 5 NC, 6 +Vout, 7 -Vout, 8 NC

## TMR-4812
designator *  value TMR-4812  Reference: U
2W DC/DC industrial converter regulated, 36-75V input, 12V fixed output voltage, 167mA output, 1.6kVDC isolation, SIP-8; ki_keywords: Traco isolated dc-dc 62368-1 single; ki_fp_filters: Converter*DCDC*TRACO*TEC2*12xxWI*24xxWI*48xxWI*THT*; Footprint: Converter_DCDC:Converter_DCDC_TRACO_TEC2-12xxWI_24xxWI_48xxWI_THT; Datasheet: https://www.tracopower.com/products/tmr2.pdf; Description_: 2W DC/DC industrial converter regulated, 36-75V input, 12V fixed output voltage, 167mA output, 1.6kVDC isolation, SIP-8
pins: 1 -Vin, 2 +Vin, 3 Remote, 5 NC, 6 +Vout, 7 -Vout, 8 NC

## TMR-4821
designator *  value TMR-4821  Reference: U
2W DC/DC industrial converter regulated, 36-75V input, ±5V fixed output voltage, 200mA each output, 1.6kVDC isolation, SIP-8; ki_keywords: Traco isolated dc-dc 62368-1 dual; ki_fp_filters: Converter*DCDC*TRACO*TEC2*12xxWI*24xxWI*48xxWI*THT*; Footprint: Converter_DCDC:Converter_DCDC_TRACO_TEC2-12xxWI_24xxWI_48xxWI_THT; Datasheet: https://www.tracopower.com/products/tmr2.pdf; Description_: 2W DC/DC industrial converter regulated, 36-75V input, ±5V fixed output voltage, 200mA each output, 1.6kVDC isolation, SIP-8
pins: 1 -Vin, 2 +Vin, 3 Remote, 5 NC, 6 +Vout, 7 Com, 8 -Vout

## TMR-4822
designator *  value TMR-4822  Reference: U
2W DC/DC industrial converter regulated, 36-75V input, ±12V fixed output voltage, 83mA each output, 1.6kVDC isolation, SIP-8; ki_keywords: Traco isolated dc-dc 62368-1 dual; ki_fp_filters: Converter*DCDC*TRACO*TEC2*12xxWI*24xxWI*48xxWI*THT*; Footprint: Converter_DCDC:Converter_DCDC_TRACO_TEC2-12xxWI_24xxWI_48xxWI_THT; Datasheet: https://www.tracopower.com/products/tmr2.pdf; Description_: 2W DC/DC industrial converter regulated, 36-75V input, ±12V fixed output voltage, 83mA each output, 1.6kVDC isolation, SIP-8
pins: 1 -Vin, 2 +Vin, 3 Remote, 5 NC, 6 +Vout, 7 Com, 8 -Vout

## TMR-4823
designator *  value TMR-4823  Reference: U
2W DC/DC industrial converter regulated, 36-75V input, ±15V fixed output voltage, 67mA each output, 1.6kVDC isolation, SIP-8; ki_keywords: Traco isolated dc-dc 62368-1 dual; ki_fp_filters: Converter*DCDC*TRACO*TEC2*12xxWI*24xxWI*48xxWI*THT*; Footprint: Converter_DCDC:Converter_DCDC_TRACO_TEC2-12xxWI_24xxWI_48xxWI_THT; Datasheet: https://www.tracopower.com/products/tmr2.pdf; Description_: 2W DC/DC industrial converter regulated, 36-75V input, ±15V fixed output voltage, 67mA each output, 1.6kVDC isolation, SIP-8
pins: 1 -Vin, 2 +Vin, 3 Remote, 5 NC, 6 +Vout, 7 Com, 8 -Vout

## TMU3-0511
designator *  value TMU3-0511  Reference: U
3W DC/DC converter unregulated, 4.5-5.5V input, 5V output voltage, 600mA output, 1.5kVDC isolation, SIP-4; ki_keywords: Traco isolated isolation dc-dc converter not-regulated non-regulated single 3W; ki_fp_filters: Converter*DCDC*TRACO*TMU3*05xx*12xx*THT*; Footprint: Converter_DCDC:Converter_DCDC_TRACO_TMU3-05xx_12xx_THT; Datasheet: https://www.tracopower.com/products/tmu3.pdf; Description_: 3W DC/DC converter unregulated, 4.5-5.5V input, 5V output voltage, 600mA output, 1.5kVDC isolation, SIP-4
pins: 1 -Vin, 2 +Vin, 3 -Vout, 4 +Vout

## TMU3-0512
designator *  value TMU3-0512  Reference: U
3W DC/DC converter unregulated, 4.5-5.5V input, 12V output voltage, 250mA output, 1.5kVDC isolation, SIP-4; ki_keywords: Traco isolated isolation dc-dc converter not-regulated non-regulated single 3W; ki_fp_filters: Converter*DCDC*TRACO*TMU3*05xx*12xx*THT*; Footprint: Converter_DCDC:Converter_DCDC_TRACO_TMU3-05xx_12xx_THT; Datasheet: https://www.tracopower.com/products/tmu3.pdf; Description_: 3W DC/DC converter unregulated, 4.5-5.5V input, 12V output voltage, 250mA output, 1.5kVDC isolation, SIP-4
pins: 1 -Vin, 2 +Vin, 3 -Vout, 4 +Vout

## TMU3-0513
designator *  value TMU3-0513  Reference: U
3W DC/DC converter unregulated, 4.5-5.5V input, 15V output voltage, 200mA output, 1.5kVDC isolation, SIP-4; ki_keywords: Traco isolated isolation dc-dc converter not-regulated non-regulated single 3W; ki_fp_filters: Converter*DCDC*TRACO*TMU3*05xx*12xx*THT*; Footprint: Converter_DCDC:Converter_DCDC_TRACO_TMU3-05xx_12xx_THT; Datasheet: https://www.tracopower.com/products/tmu3.pdf; Description_: 3W DC/DC converter unregulated, 4.5-5.5V input, 15V output voltage, 200mA output, 1.5kVDC isolation, SIP-4
pins: 1 -Vin, 2 +Vin, 3 -Vout, 4 +Vout

## TMU3-1211
designator *  value TMU3-1211  Reference: U
3W DC/DC converter unregulated, 10.8-13.2V input, 5V output voltage, 600mA output, 1.5kVDC isolation, SIP-4; ki_keywords: Traco isolated isolation dc-dc converter not-regulated non-regulated single 3W; ki_fp_filters: Converter*DCDC*TRACO*TMU3*05xx*12xx*THT*; Footprint: Converter_DCDC:Converter_DCDC_TRACO_TMU3-05xx_12xx_THT; Datasheet: https://www.tracopower.com/products/tmu3.pdf; Description_: 3W DC/DC converter unregulated, 10.8-13.2V input, 5V output voltage, 600mA output, 1.5kVDC isolation, SIP-4
pins: 1 -Vin, 2 +Vin, 3 -Vout, 4 +Vout

## TMU3-1212
designator *  value TMU3-1212  Reference: U
3W DC/DC converter unregulated, 10.8-13.2V input, 12V output voltage, 250mA output, 1.5kVDC isolation, SIP-4; ki_keywords: Traco isolated isolation dc-dc converter not-regulated non-regulated single 3W; ki_fp_filters: Converter*DCDC*TRACO*TMU3*05xx*12xx*THT*; Footprint: Converter_DCDC:Converter_DCDC_TRACO_TMU3-05xx_12xx_THT; Datasheet: https://www.tracopower.com/products/tmu3.pdf; Description_: 3W DC/DC converter unregulated, 10.8-13.2V input, 12V output voltage, 250mA output, 1.5kVDC isolation, SIP-4
pins: 1 -Vin, 2 +Vin, 3 -Vout, 4 +Vout

## TMU3-1213
designator *  value TMU3-1213  Reference: U
3W DC/DC converter unregulated, 10.8-13.2V input, 15V output voltage, 200mA output, 1.5kVDC isolation, SIP-4; ki_keywords: Traco isolated isolation dc-dc converter not-regulated non-regulated single 3W; ki_fp_filters: Converter*DCDC*TRACO*TMU3*05xx*12xx*THT*; Footprint: Converter_DCDC:Converter_DCDC_TRACO_TMU3-05xx_12xx_THT; Datasheet: https://www.tracopower.com/products/tmu3.pdf; Description_: 3W DC/DC converter unregulated, 10.8-13.2V input, 15V output voltage, 200mA output, 1.5kVDC isolation, SIP-4
pins: 1 -Vin, 2 +Vin, 3 -Vout, 4 +Vout

## TMU3-2411
designator *  value TMU3-2411  Reference: U
3W DC/DC converter unregulated, 21.6-26.4V input, 5V output voltage, 600mA output, 1.5kVDC isolation, SIP-4; ki_keywords: Traco isolated isolation dc-dc converter not-regulated non-regulated single 3W; ki_fp_filters: Converter*DCDC*TRACO*TMU3*24xx*THT*; Footprint: Converter_DCDC:Converter_DCDC_TRACO_TMU3-24xx_THT; Datasheet: https://www.tracopower.com/products/tmu3.pdf; Description_: 3W DC/DC converter unregulated, 21.6-26.4V input, 5V output voltage, 600mA output, 1.5kVDC isolation, SIP-4
pins: 1 -Vin, 2 +Vin, 3 -Vout, 4 +Vout

## TMU3-2412
designator *  value TMU3-2412  Reference: U
3W DC/DC converter unregulated, 21.6-26.4V input, 12V output voltage, 250mA output, 1.5kVDC isolation, SIP-4; ki_keywords: Traco isolated isolation dc-dc converter not-regulated non-regulated single 3W; ki_fp_filters: Converter*DCDC*TRACO*TMU3*24xx*THT*; Footprint: Converter_DCDC:Converter_DCDC_TRACO_TMU3-24xx_THT; Datasheet: https://www.tracopower.com/products/tmu3.pdf; Description_: 3W DC/DC converter unregulated, 21.6-26.4V input, 12V output voltage, 250mA output, 1.5kVDC isolation, SIP-4
pins: 1 -Vin, 2 +Vin, 3 -Vout, 4 +Vout

## TMU3-2413
designator *  value TMU3-2413  Reference: U
3W DC/DC converter unregulated, 21.6-26.4V input, 15V output voltage, 200mA output, 1.5kVDC isolation, SIP-4; ki_keywords: Traco isolated isolation dc-dc converter not-regulated non-regulated single 3W; ki_fp_filters: Converter*DCDC*TRACO*TMU3*24xx*THT*; Footprint: Converter_DCDC:Converter_DCDC_TRACO_TMU3-24xx_THT; Datasheet: https://www.tracopower.com/products/tmu3.pdf; Description_: 3W DC/DC converter unregulated, 21.6-26.4V input, 15V output voltage, 200mA output, 1.5kVDC isolation, SIP-4
pins: 1 -Vin, 2 +Vin, 3 -Vout, 4 +Vout

## TPS43060RTE
designator *  value TPS43060RTE  Reference: U
Low Quiescent Current Synchronous Boost DC-DC Controller, 7.5V Gate Driver,  Input 4.5 to 38V, Output Vin to 58V, WQFN-16; ki_fp_filters: Texas*S?PWQFN?N*EP1.2x0.8mm*; Footprint: Package_DFN_QFN:Texas_S-PWQFN-N16_EP1.2x0.8mm_ThermalVias; Datasheet: https://www.ti.com/lit/ds/symlink/tps43060.pdf; Description_: Low Quiescent Current Synchronous Boost DC-DC Controller, 7.5V Gate Driver,  Input 4.5 to 38V, Output Vin to 58V, WQFN-16; ki_keywords: Boost DC-DC
pins: 1 RT/CLK, 2 SS, 3 COMP, 4 FB, 5 ISNS–, 6 ISNS+, 7 VIN, 8 LDRV, 9 PGND, 10 VCC, 11 BOOT, 12 SW, 13 HDRV, 14 PGOOD, 15 EN, 16 AGND, 17 AGND

## TPS54240DGQ
designator *  value TPS54240DGQ  Reference: U
3.5-V to 42-V 2.5A Step-Down DC DC Converter, SSOP-10; ki_keywords: DC-DC converter step-down buck 42V; ki_fp_filters: HVSSOP*3x3mm*P0.5mm*; Footprint: Package_SO:HVSSOP-10-1EP_3x3mm_P0.5mm_EP1.57x1.88mm_ThermalVias; Datasheet: http://www.ti.com/lit/ds/symlink/tps54240.pdf; Description_: 3.5-V to 42-V 2.5A Step-Down DC DC Converter, SSOP-10
pins: 1 BOOT, 2 VIN, 3 EN, 4 SS/TR, 5 RT/CLK, 6 PWRGD, 7 VSENSE, 8 COMP, 9 GND, 10 PH, 11 GND

## TPS54240DRC
designator *  value TPS54240DRC  Reference: U
3.5-V to 42-V 2.5A Step-Down DC DC Converter, VSON-10; ki_keywords: DC-DC converter step-down buck 42V; ki_fp_filters: Texas*DRC0010J*; Footprint: Package_SON:Texas_DRC0010J_ThermalVias; Datasheet: http://www.ti.com/lit/ds/symlink/tps54240.pdf; Description_: 3.5-V to 42-V 2.5A Step-Down DC DC Converter, VSON-10
pins: 1 BOOT, 2 VIN, 3 EN, 4 SS/TR, 5 RT/CLK, 6 PWRGD, 7 VSENSE, 8 COMP, 9 GND, 10 PH, 11 GND

## TPS61022
designator *  value TPS61022  Reference: U
8A Boost Converter, 0.5-5.5 V input, 2.2-5.5V output, Texas RWU0007A VQFN-7; ki_keywords: step-up; ki_fp_filters: Texas*RWU0007A*VQFN*2x2mm*P0.5mm*; Footprint: Package_DFN_QFN:Texas_RWU0007A_VQFN-7_2x2mm_P0.5mm; Datasheet: https://www.ti.com/lit/ds/symlink/tps61022.pdf; Description_: 8A Boost Converter, 0.5-5.5 V input, 2.2-5.5V output, Texas RWU0007A VQFN-7
pins: 1 GND, 2 SW, 3 VOUT, 4 FB, 5 EN, 6 MODE, 7 VIN

## TPSM53602RDA
designator *  value TPSM53602RDA  Reference: U
36-V, 2A input, stepdown, DC/DC converter, Texas B3QFN-14; ki_keywords: step down DCDC converter regulator; ki_fp_filters: Texas*B3QFN*1EP*5x5.5mm*P0.65mm*; Footprint: Package_DFN_QFN:Texas_B3QFN-14-1EP_5x5.5mm_P0.65mm_ThermalVia; Datasheet: https://www.ti.com/lit/ds/symlink/tpsm53602.pdf; Description_: 36-V, 2A input, stepdown, DC/DC converter, Texas B3QFN-14
pins: 1 VIN, 2 EN, 3 PGND, 4 DNC, 5 DNC, 6 PGOOD, 7 VOUT, 8 VOUT, 9 FB, 10 PGND, 11 PGND, 12 AGND, 13 V5V, 14 VIN, 15 PGND

## TPSM53603RDA
designator *  value TPSM53603RDA  Reference: U
36-V, 3A input, stepdown, DC/DC converter, Texas B3QFN-14; ki_keywords: step down DCDC converter regulator; ki_fp_filters: Texas*B3QFN*1EP*5x5.5mm*P0.65mm*; Footprint: Package_DFN_QFN:Texas_B3QFN-14-1EP_5x5.5mm_P0.65mm_ThermalVia; Datasheet: https://www.ti.com/lit/ds/symlink/tpsm53603.pdf; Description_: 36-V, 3A input, stepdown, DC/DC converter, Texas B3QFN-14
pins: 1 VIN, 2 EN, 3 PGND, 4 DNC, 5 DNC, 6 PGOOD, 7 VOUT, 8 VOUT, 9 FB, 10 PGND, 11 PGND, 12 AGND, 13 V5V, 14 VIN, 15 PGND

## TPSM53604RDA
designator *  value TPSM53604RDA  Reference: U
36-V, 4A input, stepdown, DC/DC converter, Texas B3QFN-14; ki_keywords: step down DCDC converter regulator; ki_fp_filters: Texas*B3QFN*1EP*5x5.5mm*P0.65mm*; Footprint: Package_DFN_QFN:Texas_B3QFN-14-1EP_5x5.5mm_P0.65mm_ThermalVia; Datasheet: https://www.ti.com/lit/ds/symlink/tpsm53604.pdf; Description_: 36-V, 4A input, stepdown, DC/DC converter, Texas B3QFN-14
pins: 1 VIN, 2 EN, 3 PGND, 4 DNC, 5 DNC, 6 PGOOD, 7 VOUT, 8 VOUT, 9 FB, 10 PGND, 11 PGND, 12 AGND, 13 V5V, 14 VIN, 15 PGND

## TRA3-0511
designator *  value TRA3-0511  Reference: U
3W DC/DC converter unregulated, 4.5-5.5V input, 5V fixed output voltage, 600mA output, 1.0kVDC isolation, SIP-7; ki_keywords: Traco isolated single; ki_fp_filters: Converter*DCDC*TRACO*TRA3*xxxx*THT*; Footprint: Converter_DCDC:Converter_DCDC_TRACO_TRA3-xxxx_THT; Datasheet: https://www.tracopower.com/products/tra3.pdf; Description_: 3W DC/DC converter unregulated, 4.5-5.5V input, 5V fixed output voltage, 600mA output, 1.0kVDC isolation, SIP-7
pins: 1 +Vin, 2 -Vin, 4 -Vout, 6 +Vout

## TRA3-0512
designator *  value TRA3-0512  Reference: U
3W DC/DC converter unregulated, 4.5-5.5V input, 12V fixed output voltage, 250mA output, 1.0kVDC isolation, SIP-7; ki_keywords: Traco isolated single; ki_fp_filters: Converter*DCDC*TRACO*TRA3*xxxx*THT*; Footprint: Converter_DCDC:Converter_DCDC_TRACO_TRA3-xxxx_THT; Datasheet: https://www.tracopower.com/products/tra3.pdf; Description_: 3W DC/DC converter unregulated, 4.5-5.5V input, 12V fixed output voltage, 250mA output, 1.0kVDC isolation, SIP-7
pins: 1 +Vin, 2 -Vin, 4 -Vout, 6 +Vout

## TRA3-0513
designator *  value TRA3-0513  Reference: U
3W DC/DC converter unregulated, 4.5-5.5V input, 15V fixed output voltage, 200mA output, 1.0kVDC isolation, SIP-7; ki_keywords: Traco isolated single; ki_fp_filters: Converter*DCDC*TRACO*TRA3*xxxx*THT*; Footprint: Converter_DCDC:Converter_DCDC_TRACO_TRA3-xxxx_THT; Datasheet: https://www.tracopower.com/products/tra3.pdf; Description_: 3W DC/DC converter unregulated, 4.5-5.5V input, 15V fixed output voltage, 200mA output, 1.0kVDC isolation, SIP-7
pins: 1 +Vin, 2 -Vin, 4 -Vout, 6 +Vout

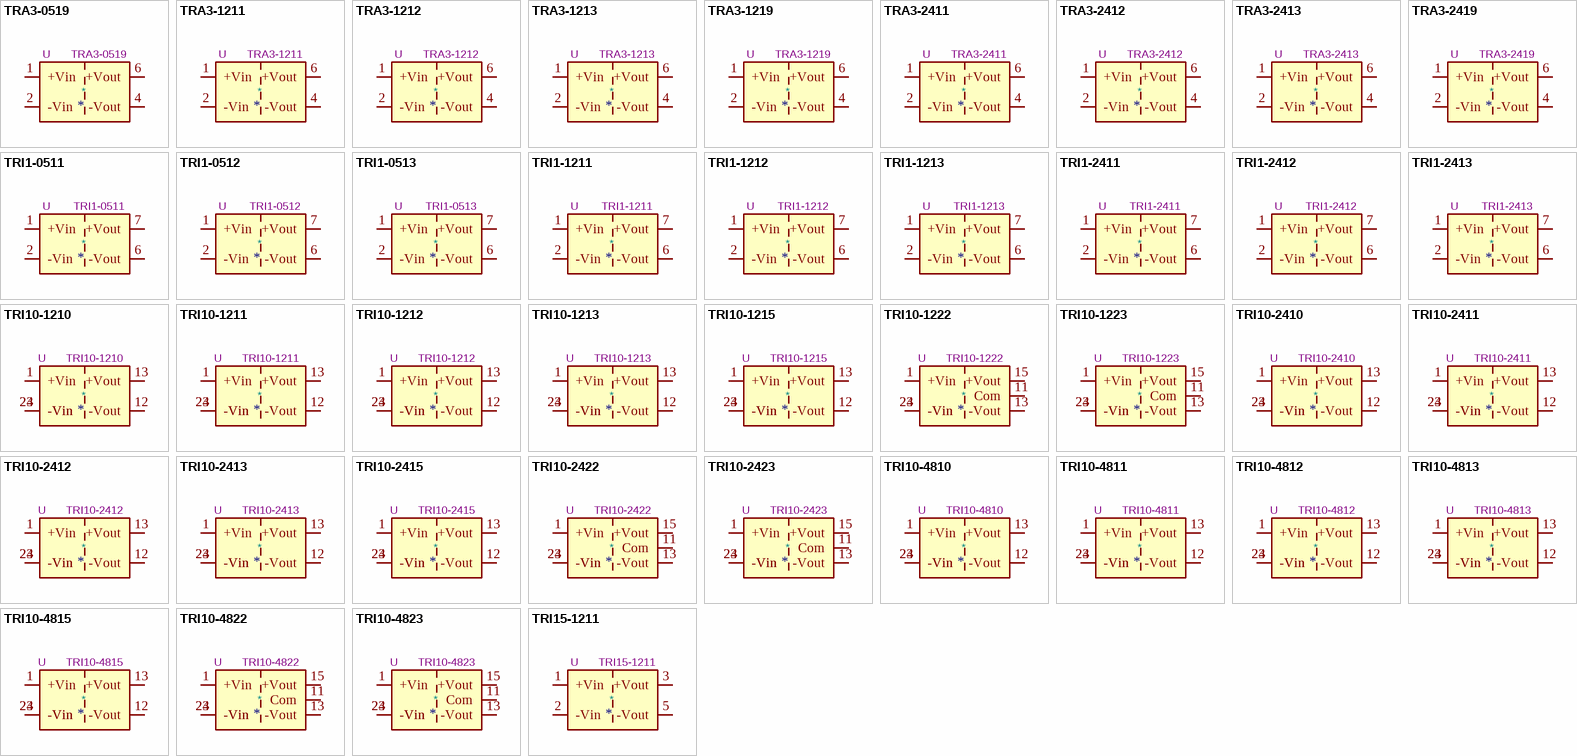
[diagram p21: symbols TRA3-0519 to TRI15-1211]

## TRA3-0519
designator *  value TRA3-0519  Reference: U
3W DC/DC converter unregulated, 4.5-5.5V input, 9V fixed output voltage, 333mA output, 1.0kVDC isolation, SIP-7; ki_keywords: Traco isolated single; ki_fp_filters: Converter*DCDC*TRACO*TRA3*xxxx*THT*; Footprint: Converter_DCDC:Converter_DCDC_TRACO_TRA3-xxxx_THT; Datasheet: https://www.tracopower.com/products/tra3.pdf; Description_: 3W DC/DC converter unregulated, 4.5-5.5V input, 9V fixed output voltage, 333mA output, 1.0kVDC isolation, SIP-7
pins: 1 +Vin, 2 -Vin, 4 -Vout, 6 +Vout

## TRA3-1211
designator *  value TRA3-1211  Reference: U
3W DC/DC converter unregulated, 10.8-13.2V input, 5V fixed output voltage, 600mA output, 1.0kVDC isolation, SIP-7; ki_keywords: Traco isolated single; ki_fp_filters: Converter*DCDC*TRACO*TRA3*xxxx*THT*; Footprint: Converter_DCDC:Converter_DCDC_TRACO_TRA3-xxxx_THT; Datasheet: https://www.tracopower.com/products/tra3.pdf; Description_: 3W DC/DC converter unregulated, 10.8-13.2V input, 5V fixed output voltage, 600mA output, 1.0kVDC isolation, SIP-7
pins: 1 +Vin, 2 -Vin, 4 -Vout, 6 +Vout

## TRA3-1212
designator *  value TRA3-1212  Reference: U
3W DC/DC converter unregulated, 10.8-13.2V input, 12V fixed output voltage, 250mA output, 1.0kVDC isolation, SIP-7; ki_keywords: Traco isolated single; ki_fp_filters: Converter*DCDC*TRACO*TRA3*xxxx*THT*; Footprint: Converter_DCDC:Converter_DCDC_TRACO_TRA3-xxxx_THT; Datasheet: https://www.tracopower.com/products/tra3.pdf; Description_: 3W DC/DC converter unregulated, 10.8-13.2V input, 12V fixed output voltage, 250mA output, 1.0kVDC isolation, SIP-7
pins: 1 +Vin, 2 -Vin, 4 -Vout, 6 +Vout

## TRA3-1213
designator *  value TRA3-1213  Reference: U
3W DC/DC converter unregulated, 10.8-13.2V input, 15V fixed output voltage, 200mA output, 1.0kVDC isolation, SIP-7; ki_keywords: Traco isolated single; ki_fp_filters: Converter*DCDC*TRACO*TRA3*xxxx*THT*; Footprint: Converter_DCDC:Converter_DCDC_TRACO_TRA3-xxxx_THT; Datasheet: https://www.tracopower.com/products/tra3.pdf; Description_: 3W DC/DC converter unregulated, 10.8-13.2V input, 15V fixed output voltage, 200mA output, 1.0kVDC isolation, SIP-7
pins: 1 +Vin, 2 -Vin, 4 -Vout, 6 +Vout

## TRA3-1219
designator *  value TRA3-1219  Reference: U
3W DC/DC converter unregulated, 10.8-13.2V input, 9V fixed output voltage, 333mA output, 1.0kVDC isolation, SIP-7; ki_keywords: Traco isolated single; ki_fp_filters: Converter*DCDC*TRACO*TRA3*xxxx*THT*; Footprint: Converter_DCDC:Converter_DCDC_TRACO_TRA3-xxxx_THT; Datasheet: https://www.tracopower.com/products/tra3.pdf; Description_: 3W DC/DC converter unregulated, 10.8-13.2V input, 9V fixed output voltage, 333mA output, 1.0kVDC isolation, SIP-7
pins: 1 +Vin, 2 -Vin, 4 -Vout, 6 +Vout

## TRA3-2411
designator *  value TRA3-2411  Reference: U
3W DC/DC converter unregulated, 21.6-26.4V input, 5V fixed output voltage, 600mA output, 1.0kVDC isolation, SIP-7; ki_keywords: Traco isolated single; ki_fp_filters: Converter*DCDC*TRACO*TRA3*xxxx*THT*; Footprint: Converter_DCDC:Converter_DCDC_TRACO_TRA3-xxxx_THT; Datasheet: https://www.tracopower.com/products/tra3.pdf; Description_: 3W DC/DC converter unregulated, 21.6-26.4V input, 5V fixed output voltage, 600mA output, 1.0kVDC isolation, SIP-7
pins: 1 +Vin, 2 -Vin, 4 -Vout, 6 +Vout

## TRA3-2412
designator *  value TRA3-2412  Reference: U
3W DC/DC converter unregulated, 21.6-26.4V input, 12V fixed output voltage, 250mA output, 1.0kVDC isolation, SIP-7; ki_keywords: Traco isolated single; ki_fp_filters: Converter*DCDC*TRACO*TRA3*xxxx*THT*; Footprint: Converter_DCDC:Converter_DCDC_TRACO_TRA3-xxxx_THT; Datasheet: https://www.tracopower.com/products/tra3.pdf; Description_: 3W DC/DC converter unregulated, 21.6-26.4V input, 12V fixed output voltage, 250mA output, 1.0kVDC isolation, SIP-7
pins: 1 +Vin, 2 -Vin, 4 -Vout, 6 +Vout

## TRA3-2413
designator *  value TRA3-2413  Reference: U
3W DC/DC converter unregulated, 21.6-26.4V input, 15V fixed output voltage, 200mA output, 1.0kVDC isolation, SIP-7; ki_keywords: Traco isolated single; ki_fp_filters: Converter*DCDC*TRACO*TRA3*xxxx*THT*; Footprint: Converter_DCDC:Converter_DCDC_TRACO_TRA3-xxxx_THT; Datasheet: https://www.tracopower.com/products/tra3.pdf; Description_: 3W DC/DC converter unregulated, 21.6-26.4V input, 15V fixed output voltage, 200mA output, 1.0kVDC isolation, SIP-7
pins: 1 +Vin, 2 -Vin, 4 -Vout, 6 +Vout

## TRA3-2419
designator *  value TRA3-2419  Reference: U
3W DC/DC converter unregulated, 21.6-26.4V input, 9V fixed output voltage, 333mA output, 1.0kVDC isolation, SIP-7; ki_keywords: Traco isolated single; ki_fp_filters: Converter*DCDC*TRACO*TRA3*xxxx*THT*; Footprint: Converter_DCDC:Converter_DCDC_TRACO_TRA3-xxxx_THT; Datasheet: https://www.tracopower.com/products/tra3.pdf; Description_: 3W DC/DC converter unregulated, 21.6-26.4V input, 9V fixed output voltage, 333mA output, 1.0kVDC isolation, SIP-7
pins: 1 +Vin, 2 -Vin, 4 -Vout, 6 +Vout

## TRI1-0511
designator *  value TRI1-0511  Reference: U
1W DC/DC converter unregulated, 4.5-5.5V input, 5V fixed output voltage, 200mA output, 3.0kVDC isolation, SIP-7; ki_keywords: Traco isolated isolation dc-dc converter not-regulated non-regulated single 1W; ki_fp_filters: Converter*DCDC*TRACO*TRI1*; Footprint: Converter_DCDC:Converter_DCDC_TRACO_TRI1-xxxx_THT; Datasheet: https://www.tracopower.com/products/tri1.pdf; Description_: 1W DC/DC converter unregulated, 4.5-5.5V input, 5V fixed output voltage, 200mA output, 3.0kVDC isolation, SIP-7
pins: 1 +Vin, 2 -Vin, 6 -Vout, 7 +Vout